# EAGLE library part MC33887-HSOP (library apbteam_mc33887)
5.0 A H-Bridge with Load Current Feedback
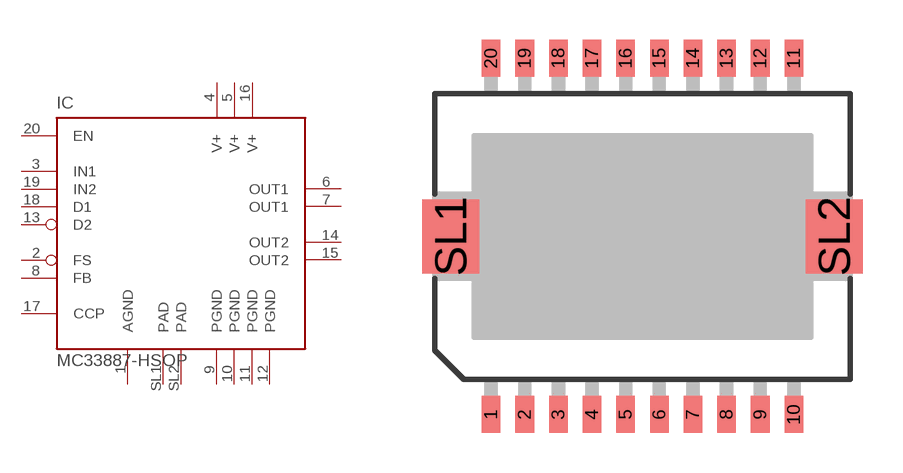
[diagram p0: symbol with the pads of HSOP; footprint HSOP]

Designator prefix IC

## MC33887-HSOP  [HSOP]
1  AGND  pwr
2  FS  oc
3  IN1  in
4  V+  pwr
5  V+  pwr
6  OUT1
7  OUT1
8  FB  out
9  PGND  pwr
10  PGND  pwr
11  PGND  pwr
12  PGND  pwr
13  D2  in
14  OUT2
15  OUT2
16  V+  pwr
17  CCP  pas
18  D1  in
19  IN2  in
20  EN  in
SL1  PAD  pas
SL2  PAD  pas

## Footprint HSOP (pad centres in mm)
Heatsink Small Outline Package (HSOP) Source: www.motorola.com/... AN2388.pdf Use a polygon for the heat sink connection!
smd 0.7 x 1.4: 1 -5.715,-6.731; 2 -4.445,-6.731; 3 -3.175,-6.731; 4 -1.905,-6.731; 5 -0.635,-6.731; 6 0.635,-6.731; 7 1.905,-6.731; 8 3.175,-6.731; 9 4.445,-6.731; 10 5.715,-6.731; 11 5.715,6.731; 12 4.445,6.731; 13 3.175,6.731; 14 1.905,6.731; 15 0.635,6.731; 16 -0.635,6.731; 17 -1.905,6.731; 18 -3.175,6.731; 19 -4.445,6.731; 20 -5.715,6.731
smd 2.15 x 2.8: SL1 -7.239,0; SL2 7.239,0